# Altium footprint library Switch.PcbLib: 13 footprints
Each footprint in its own frame and in the unit in brackets; x right, y up, seen from the top. Pads: shape width x height; smd on the part's side, far side on the other; paste and mask are expansions set on the pad; w line width, h text height; cw(c..) or ccw(c..) is an arc to the next point about the centre after c.
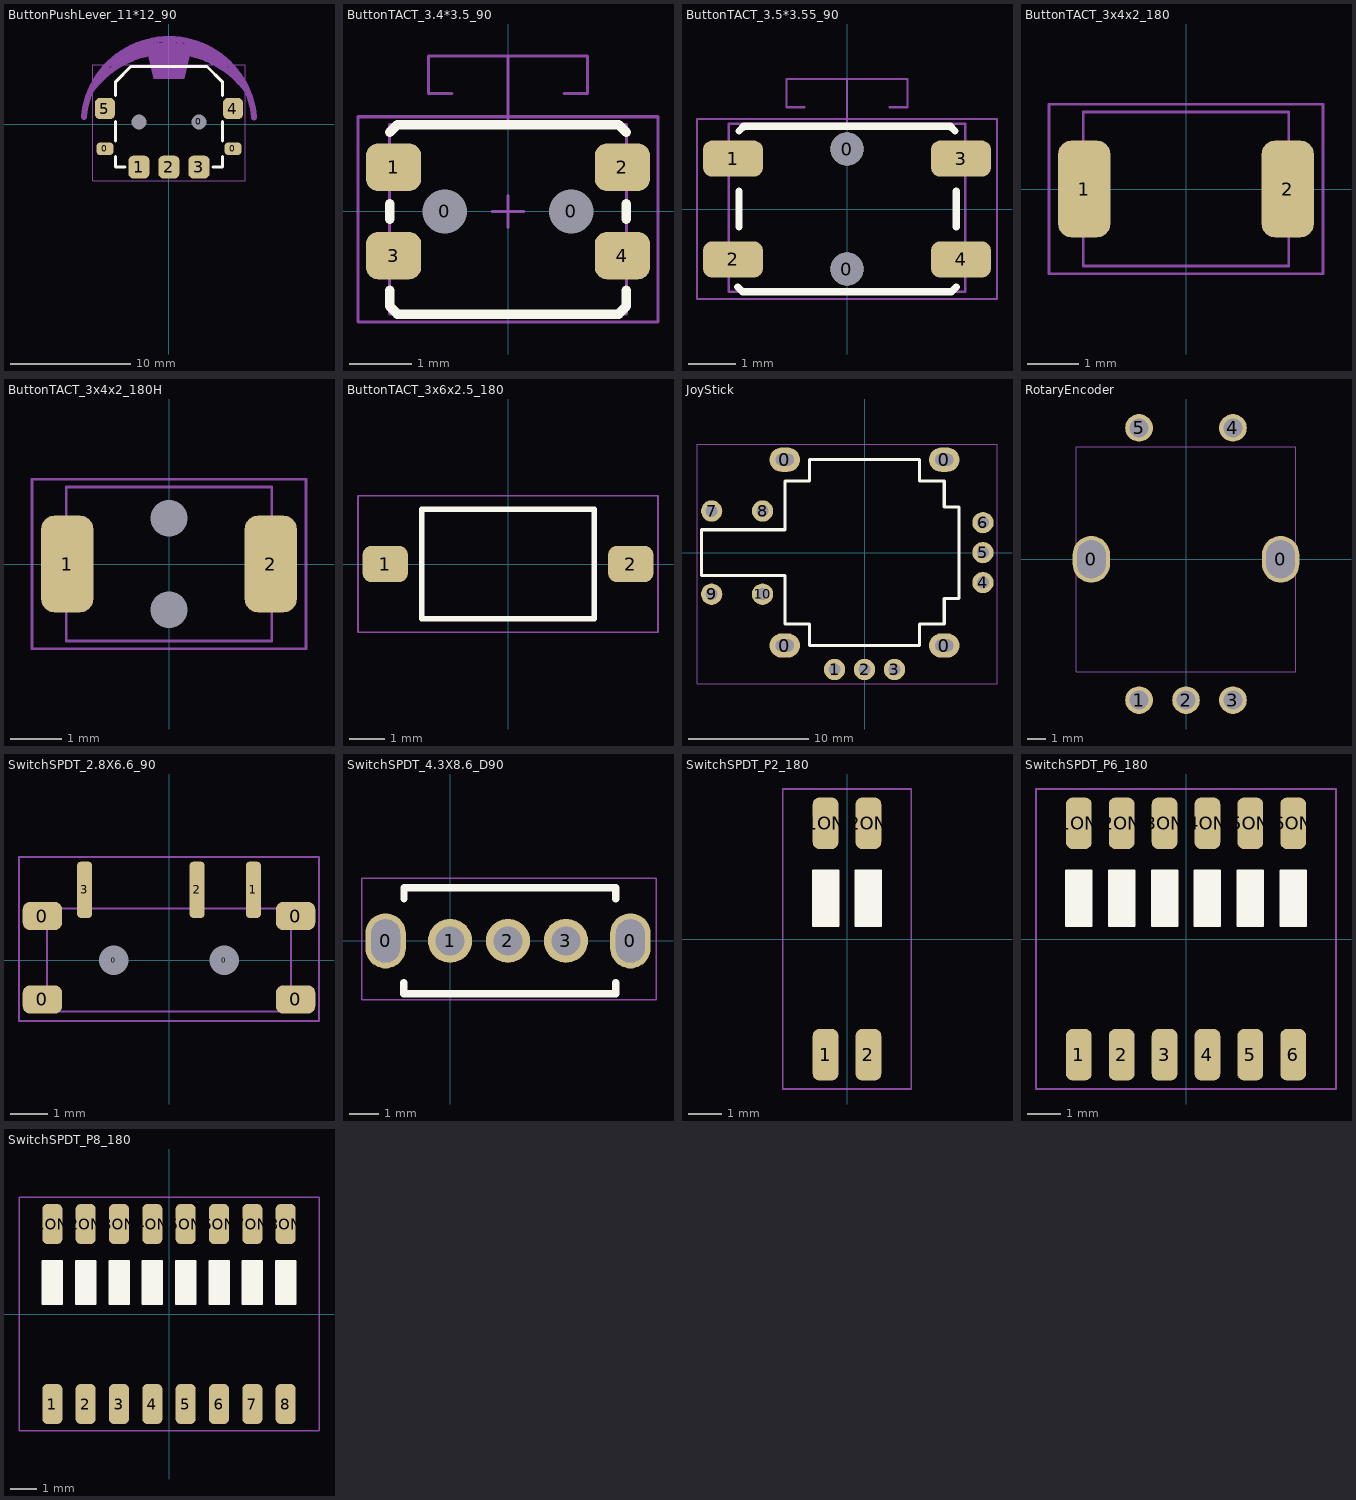
[diagram p0: the footprints below, top view; thin cyan lines are the x and y axes]

## ButtonPushLever_11*12_90 [mil]
pads (9):
  rrect50% 55x40 smd: 0(-210,-80) 0(210,-80)
  round 0 hole 48 mask+0: 0(-98.43,7.87)
  round 40 hole 48 mask+0: 0(98.43,7.87)
  rrect50% 70x75 smd: 1(-98.43,-140) 2(0,-140) 3(98.43,-140)
  rrect50% 66x70 smd: 4(210,52) 5(-210,52)
Top Overlay:
  lines w10: -175,-105 -175,-140 -145,-140 ; -175,-55 -175,10 ; -175,95 -175,140 -125,190 125,190 175,140 175,95 ; 145,-140 175,-140 175,-105 ; 175,-55 175,10
Mechanical 13:
  region: 50,150 -50,150 -75,255 75,255
  lines w20: -278.97,24.05 cw(c0,0) 279.03,23.25 ; -259.04,107.33 cw(c-0.23,-78.68) 259.1,106.59 ; -198.99,195.95 cw(c0.32,-82.13) 200.42,195.38 ccw(c0.11,-231.96) -198.99,195.95
T-Component:
  lines w2: -250,-185 -250,195 250,195 250,-185 -250,-185
  text ".Designator" at -40,-20 h100

## ButtonTACT_3.4*3.5_90 [mil]
pads (6):
  round 20 hole 28 unplated: 0(-40,0) 0(40,0)
  rrect50% 35x30 smd: 1(-72.5,28) 2(72.5,28) 3(-72.5,-28) 4(72.5,-28)
Top Overlay:
  lines w6: -75,-50 -75,-60 -70,-65 70,-65 75,-60 75,-50 ; -75,-5 -75,5 ; -75,50 -70,55 70,55 75,50 ; 75,-5 75,5
Mechanical 13:
  lines w2: -35.39,74.78 -50.39,74.78 -50.39,98.4 50.39,98.4 50.39,74.78 35.39,74.78 ; -10,0 10,0 ; 0,-10 0,10 ; 0,55.12 0,98.4 ; -75,-65 75,-65 75,55.12 -75,55.12 -75,-65
T-Component:
  lines w2: -95,-70 95,-70 95,60 -95,60 -95,-70
  text ".Designator" at -40,-25 h100

## ButtonTACT_3.5*3.55_90 [mil]
pads (6):
  round 27.56 hole 27.56 mask+0: 0(-0.01,-50) 0(0,50)
  rrect50% 50x30 smd: 1(-95,42) 2(-95,-42) 3(95,42) 4(95,-42)
Top Overlay:
  lines w6: -91,-65 -87,-69 87,-69 91,-65 ; -90,-15 -90,15 ; -90,65 -85.98,69 86,69 90,65 ; 91,-15 91,15
Mechanical 13:
  lines w2: -35.39,84.78 -50.39,84.78 -50.39,108.4 50.39,108.4 50.39,84.78 35.39,84.78 ; 0,71 0,108.4 ; -98.43,-68.9 -98.43,71 98.43,71 98.43,-68.9 -98.43,-68.9
T-Component:
  lines w2: -125,-75 -125,75 125,75 125,-75 -125,-75
  text ".Designator" at -40,-25 h100
3D body "User Library-KMS231G.STEP": height 55.91, standoff -0.77, extent -90.1,-54.76 91,85

## ButtonTACT_3x4x2_180 [mil]
height 78.74
pads (2):
  rrect50% 40x74 smd: 1(-78,0) 2(78,0)
Mechanical 13:
  lines w2: -78.73,-59.05 78.75,-59.05 78.75,59.06 -78.74,59.06 -78.74,-59.06
T-Component:
  lines w2: -105,-65 105,-65 105,65 -105,65 -105,-65
  text ".Designator" at -40,-25 h100
3D body "20041.stp": height 62.99, standoff 0, extent -78.73,-49.2 78.75,49.22

## ButtonTACT_3x4x2_180H [mil]
height 78.74
pads (4):
  round 0 hole 28: 0(0,-35) 0(0,35)
  rrect50% 40x74 smd: 1(-78,0) 2(78,0)
Mechanical 13:
  lines w2: -78.74,-59.06 -78.74,59.06 78.74,59.06 78.75,-59.05 -78.73,-59.05
T-Component:
  lines w2: -105,-65 105,-65 105,65 -105,65 -105,-65
  text ".Designator" at -40,-25 h100
3D body "20041.stp": height 62.99, standoff 0, extent -78.73,-49.2 78.75,49.22

## ButtonTACT_3x6x2.5_180 [mil]
pads (2):
  rrect50% 50x40 smd: 1(-135,0) 2(135,0)
Top Overlay:
  lines w6: -95,-60 -95,60 95,60 95,-60 -95,-60
T-Component:
  lines w2: -165,-75 165,-75 165,75 -165,75 -165,-75
  text ".Designator" at -40,-25 h100
3D body "User Library-Tact switch 1181_3.STEP": height 94.49, standoff -3.94, extent -157.48,-70.86 157.49,70.87

## JoyStick [mil]
pads (14):
  oval 100x80 hole 40 slot 60 at 0 deg: 0(-261.81,-305.12) 0(-261.81,305.12) 0(261.81,-305.12) 0(261.81,305.12)
  round 70 hole 39.37: 1(-98.43,-383.86) 2(0,-383.86) 3(98.43,-383.86) 4(388.86,-98.43) 5(388.86,0) 6(388.86,98.43) 7(-501.97,136.57) 8(-334.8,136.57) 9(-501.97,-136.57) 10(-334.8,-136.57)
Top Overlay:
  lines w10: -535,-75 -261.81,-75 -261.81,-235 -180,-235 -180,-305.12 180,-305.12 180,-235 261.81,-235 261.81,-150 310,-150 310,150 261.81,150 261.81,235 180,235 180,305.12 -180,305.12 -180,235 -261.81,235 -261.81,75 -535,75 -535,-75
T-Component:
  lines w2: -550,-430 -550,355 435,355 435,-430 -550,-430
  text ".Designator" at -40,-25 h100
3D body "User Library-Joystick_Asm_Left.STEP": height 1126.3, standoff -118.11, extent -592.19,-517.56 518.45,517.79

## RotaryEncoder [mil]
pads (7):
  oval 78x98 hole 60 slot 80 at 90 deg: 0(-198.43,0) 0(198.43,0)
  round 58 hole 40: 1(-98.43,-295.28) 2(0,-295.28) 3(98.43,-295.28) 4(98.43,275.59) 5(-98.43,275.59)
Mechanical 13:
  lines w2: -230.31,-236.22 -230.31,236.22 230.31,236.22 230.31,-236.22 -230.31,-236.22

## SwitchSPDT_2.8X6.6_90 [mil]
pads (9):
  rrect50% 42x30 smd: 0(-135,-42) 0(-135,47) 0(135,-42) 0(135,47)
  round 10 hole 31.5: 0(-59.06,0) 0(59.06,0)
  rrect50% 16x60 smd: 1(90,75) 2(30,75) 3(-90,75)
Mechanical 13:
  lines w2: -130,-55 130,-55 130,55 -130,55 -130,-55
T-Component:
  lines w2: -160,-65 160,-65 160,110 -160,110 -160,-65
  text ".Designator" at -40,-5 h100
3D body "User Library-MSS3_slide_switch_v2.STEP": height 55.12, standoff -19.68, extent -152.24,-110.67 150.91,86.18

## SwitchSPDT_4.3X8.6_D90 [mil]
pads (5):
  oval 55x75 hole 39.37 slot 59.06 at 90 deg: 0(-87.68,0) 0(245.16,0)
  round 60 hole 39.37: 1(0,0) 2(78.74,0) 3(157.48,0)
Top Overlay:
  lines w10: -62.83,-57 -62.83,-72 225,-72 225,-57 ; -62.68,57 -62.68,72 225.16,72 225.16,57
Mechanical 13:
  lines w2: -120,-80 -120,85 280,85 280,-80 -120,-80
T-Component:
  lines w2: -120,-80 280,-80 280,85 -120,85 -120,-80
  text ".Designator" at 38.74,-20 h100
3D body "User Library-CK_Slide.STEP": height 190, standoff -105, extent -90.76,-245.62 248.24,84

## SwitchSPDT_P2_180 [mil]
pads (4):
  rrect50% 30x60 smd: 1(-25,-135) 1ON(-25,135) 2(25,-135) 2ON(25,135)
Top Overlay:
  region: -10,80 -40,80 -40,15 -10,15
  region: 40,80 10,80 10,15 40,15
  lines w2: -40,15 -10,15 -10,80 -40,80 -40,15 ; 10,15 10,80 40,80 40,15 10,15
T-Component:
  lines w2: -75,-175 75,-175 75,175 -75,175 -75,-175
  text ".Designator" at -40,-20 h100
3D body "SW3DPS-DIP SWITCH HALF PITCH SMD X2-DEFAULT.STEP": height 59.37, standoff -1.65, extent -74.21,-126.88 74.21,136.9

## SwitchSPDT_P6_180 [mil]
pads (12):
  rrect50% 30x60 smd: 1(-125,-135) 1ON(-125,135) 2(-75,-135) 2ON(-75,135) 3(-25,-135) 3ON(-25,135) 4(25,-135) 4ON(25,135) 5(75,-135) 5ON(75,135) 6(125,-135) 6ON(125,135)
Top Overlay:
  region: 140,80 110,80 110,15 140,15
  region: 90,80 60,80 60,15 90,15
  region: 40,80 10,80 10,15 40,15
  region: -10,80 -40,80 -40,15 -10,15
  region: -110,80 -140,80 -140,15 -110,15
  region: -60,80 -90,80 -90,15 -60,15
  lines w2: -140,15 -110,15 -110,80 -140,80 -140,15 ; -90,15 -90,80 -60,80 -60,15 -90,15 ; -40,15 -10,15 -10,80 -40,80 -40,15 ; 10,15 10,80 40,80 40,15 10,15 ; 60,15 60,80 90,80 90,15 60,15 ; 110,15 110,80 140,80 140,15 110,15
T-Component:
  lines w2: -175,-175 175,-175 175,175 -175,175 -175,-175
  text ".Designator" at -40,-20 h100
3D body "User Library-1571983-8_DIP_Switch_Tyco_Electronics.STEP": height 92.52, standoff 0, extent -172.25,-160.09 172.24,160.1

## SwitchSPDT_P8_180 [mil]
pads (16):
  rrect50% 30x60 smd: 1(-175,-135) 1ON(-175,135) 2(-125,-135) 2ON(-125,135) 3(-75,-135) 3ON(-75,135) 4(-25,-135) 4ON(-25,135) 5(25,-135) 5ON(25,135) 6(75,-135) 6ON(75,135) 7(125,-135) 7ON(125,135) 8(175,-135) 8ON(175,135)
Top Overlay:
  region: -110,80 -140,80 -140,15 -110,15
  region: -160,80 -190,80 -190,15 -160,15
  region: -60,80 -90,80 -90,15 -60,15
  region: -10,80 -40,80 -40,15 -10,15
  region: 40,80 10,80 10,15 40,15
  region: 90,80 60,80 60,15 90,15
  region: 190,80 160,80 160,15 190,15
  region: 140,80 110,80 110,15 140,15
  lines w2: -190,15 -190,80 -160,80 -160,15 -190,15 ; -140,15 -110,15 -110,80 -140,80 -140,15 ; -90,15 -90,80 -60,80 -60,15 -90,15 ; -40,15 -10,15 -10,80 -40,80 -40,15 ; 10,15 40,15 40,80 10,80 10,15 ; 60,15 90,15 90,80 60,80 60,15 ; 110,15 110,80 140,80 140,15 110,15 ; 160,15 160,80 190,80 190,15 160,15
T-Component:
  lines w2: -225,-175 -225,175 225,175 225,-175 -225,-175
  text ".Designator" at -40,-20 h100
3D body "33363.stp": height 61.02, standoff 0, extent -224.2,-131.88 224.22,131.9